# Altium schematic symbol library Diode.SchLib: 14 symbols
Pins are listed as number, name and electrical type; pins without a type are passive.

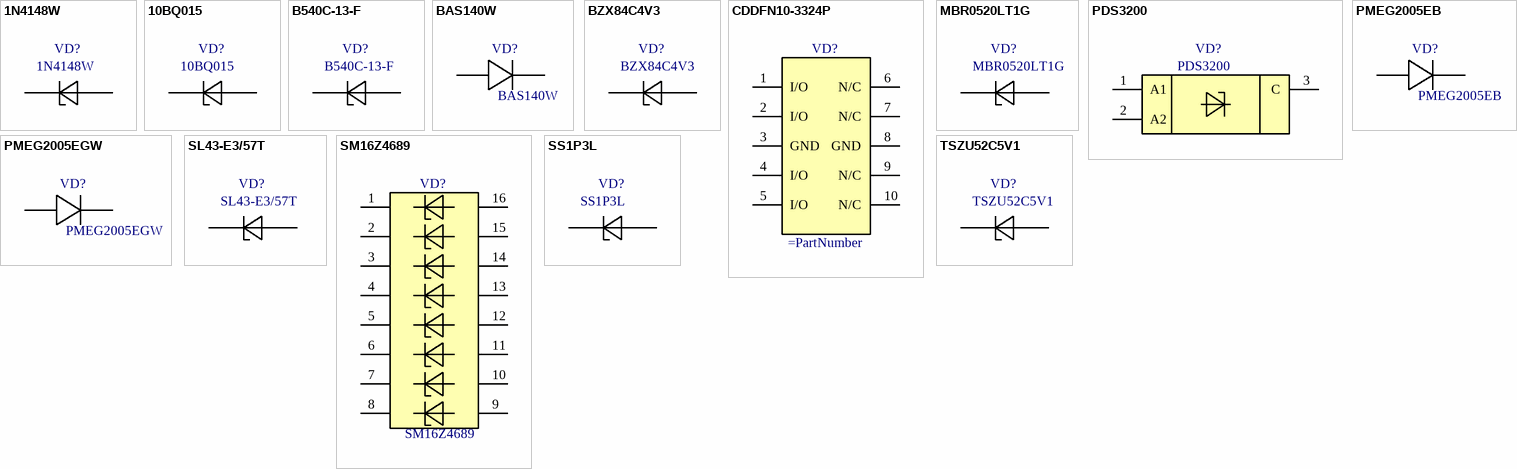
[diagram p0: symbols 1N4148W to TSZU52C5V1]

## 1N4148W
designator VD?
SURFACE MOUNT FAST SWITCHING DIODE; Manufacturer: Diodes Inc; PartNumber: 1N4148W; ComponentLink1Description: Product Page; ComponentLink1URL: https://www.diodes.com/part/view/1N4148W
footprint SOD370X155X135L32X57N (Diode, Small Outline Diode (SOD); 2.70 mm L X 1.55 mm W X 1.35 mm H body)
pins: A, C

## 10BQ015
designator VD?
Diode Schottky rectifier; PartNumber: 10BQ015; Manufacturer: *
footprint DIOM530X355X240L103X197N (Diode, Molded Body; 5.30 mm L X 3.55 mm W X 2.40 mm H body)
pins: A, C

## B540C-13-F
designator VD?
5.0A SURFACE MOUNT SCHOTTKY BARRIER RECTIFIER; PartNumber: B540C-13-F; Manufacturer: *
footprint DIOM794X590X250L114X296N (Diode, Molded Body; 6.855 mm L X 5.905 mm W X 2.50 mm H body)
pins: A, C

## BAS140W
designator VD?
General-purpose diode for high-speed switching; PartNumber: BAS140W; Manufacturer: *
footprint SOD250X130X110L45X32N (Diode, Small Outline Diode (SOD); 1.75 mm L X 1.30 mm W X 1.10 mm H body)
pins: A, C

## BZX84C4V3
designator VD?
SURFACE MOUNT ZENER DIODE; Manufacturer: Diodes Inc; PartNumber: BZX84C4V3; ComponentLink1Description: Product Page; ComponentLink1URL: https://www.diodes.com/part/view/BZX84C4V3#tab-details
footprint SOT23-3P91_240X51L40X44N (Small Outline Transistor (SOT23), 0.915 mm pitch; 3 pin, 2.90 mm L X 1.30 mm W X 0.51 mm H body)
pins: 1 A, 3 C

## CDDFN10-3324P
designator VD?
Surface Mount TVS Diode Array
pins: 1 I/O, 2 I/O, 3 GND, 4 I/O, 5 I/O, 6 N/C, 7 N/C, 8 GND, 9 N/C, 10 N/C

## MBR0520LT1G
designator VD?
SCHOTTKY BARRIER RECTIFIER 0.5 AMPERES, 20 VOLTS; PartNumber: MBR0520LT1G; Manufacturer: *
footprint SOD371X160X135L25X38N (Diode, Small Outline Diode (SOD); 2.69 mm L X 1.60 mm W X 1.35 mm H body)
pins: A, C

## PDS3200
designator VD?
3A HIGH VOLTAGE SCHOTTKY BARRIER RECTIFIER; PartNumber: PDS3200; Manufacturer: *
footprint PowerDI5 (Diodes Inc CASE PowerDI5)
pins: 1 A1, 2 A2, 3 C

## PMEG2005EB
designator VD?
Low VF MEGA Schottky barrier diode; PartNumber: PMEG2005EB; Manufacturer: *
footprint SODFL160X80X65L20X30N (Diode, Small Outline Diode Flat Lead (SODFL); 1.20 mm L X 0.80 mm W X 0.65 mm H body)
pins: A, C

## PMEG2005EGW
designator VD?
20 V, 0.5 A low VF MEGA Schottky barrier rectifier; Manufacturer: Nexperia; PartNumber: PMEG2005EGW; ComponentLink1Description: Datasheet; ComponentLink1URL: https://assets.nexperia.com/documents/data-sheet/PMEG2005EGW.pdf
footprint SOD360X160X130L30X62N (Diode, Small Outline Diode (SOD); 2.675 mm L X 1.60 mm W X 1.30 mm H body)
pins: A, C

## SL43-E3/57T
designator VD?
SCHOTTKY BARRIER RECTIFIER 4 AMPERES, 30 VOLTS; PartNumber: SL43-E3/57T; Manufacturer: *
footprint DIOM794X590X262L114X300N (Diode, Molded Body; 6.855 mm L X 5.905 mm W X 2.62 mm H body)
pins: A, C

## SM16Z4689
designator VD?
5.1 Volt Zener Diode Array; PartNumber: SM16Z4689; Manufacturer: *
footprint SOIC16P127_959X599X175L84X40N (Small Outline IC (SOIC), 1.27 mm pitch; 16 pin, 9.595 mm L X 3.91 mm W X 1.75 mm H body)
pins: 1, 2, 3, 4, 5, 6, 7, 8, 9, 10, 11, 12, 13, 14, 15, 16

## SS1P3L
designator VD?
Low VF High Current Density Surface-MountSchottky Barrier Rectifiers; Manufacturer: Vishay; PartNumber: SS1P3L; ComponentLink1Description: Product Page; ComponentLink1URL: https://www.vishay.com/product?docid=88915
footprint DO-220AA (Vishay DO-220AA)
pins: A, C

## TSZU52C5V1
designator VD?
SMD Zener Diode; PartNumber: TSZU52C5V1; Manufacturer: *
footprint DIOC170X90X85L45N (Diode, Chip; 1.70 mm L X 0.90 mm W X 0.85 mm H body)
pins: A, C